# EAGLE library part LSM_IMU (library custom)
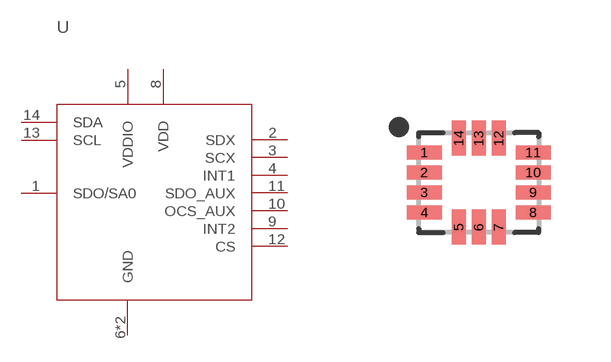
[diagram p0: symbol with the pads of LSM6DS0; footprint LSM6DS0]

Designator prefix U

## LSM_IMU (CREATOR: MING; DIST: DIGIKEY; DISTPN: 497-18367-1-ND)  [LSM6DS0]
1  SDO/SA0
2  SDX
3  SCX
4  INT1
5  VDDIO
6  GND
7  GND
8  VDD
9  INT2
10  OCS_AUX
11  SDO_AUX
12  CS
13  SCL
14  SDA

## Footprint LSM6DS0 (pad centres in mm)
14-QFN, 0.50 mm pitch, 2.50 X 3.00 X 0.86 mm body 14-pin QFN package with 0.50 mm pitch with body size 2.50 X 3.00 X 0.86 mm
smd 0.875 x 0.35: 1 -1.363,0.75; 2 -1.363,0.25; 3 -1.363,-0.25; 4 -1.363,-0.75; 8 1.363,-0.75; 9 1.363,-0.25; 10 1.363,0.25; 11 1.363,0.75
smd 0.35 x 0.875: 5 -0.5,-1.113; 6 0,-1.113; 7 0.5,-1.113; 12 0.5,1.113; 13 0,1.113; 14 -0.5,1.113